# Altium schematic symbol library Batterijhouder2xAA.SchLib: 1 symbol
Pins are listed as number, name and electrical type; pins without a type are passive.

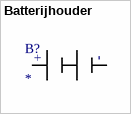
[diagram p0: symbol Batterijhouder]

## Batterijhouder
designator B?
footprint PCBComponent_1
pins: 1 (power), 2 62 (power)
text: -; +